# Altium integrated library DAC80502DRXR.IntLib: 1 symbol
Pins are listed as number, name and electrical type; pins without a type are passive.

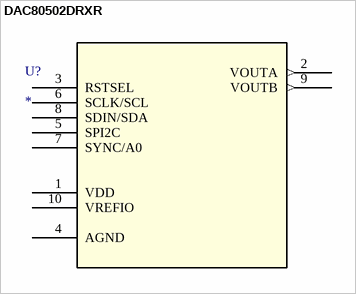
[diagram p0: symbol DAC80502DRXR]

## DAC80502DRXR
designator U?
Dual-channel, 1-LSB INL, 16-bit, SPI voltage-output digital-to-analog converter (DAC); Mfr_Name: Texas Instruments; RefDes: RefDes; Type: Type; Supplier 1: Digikey; Supplier Part Number 1: 296-DAC80502DRXTCT-ND
footprint SON_02DRXR_TEX
pins: 1 VDD (power), 2 VOUTA (out), 3 RSTSEL, 4 AGND (power), 5 SPI2C, 6 SCLK/SCL, 7 SYNC/A0, 8 SDIN/SDA, 9 VOUTB (out), 10 VREFIO (power)